# Altium schematic symbol library LimeMicroAltiumLib.SchLib: 659 symbols (part 7 of 22)
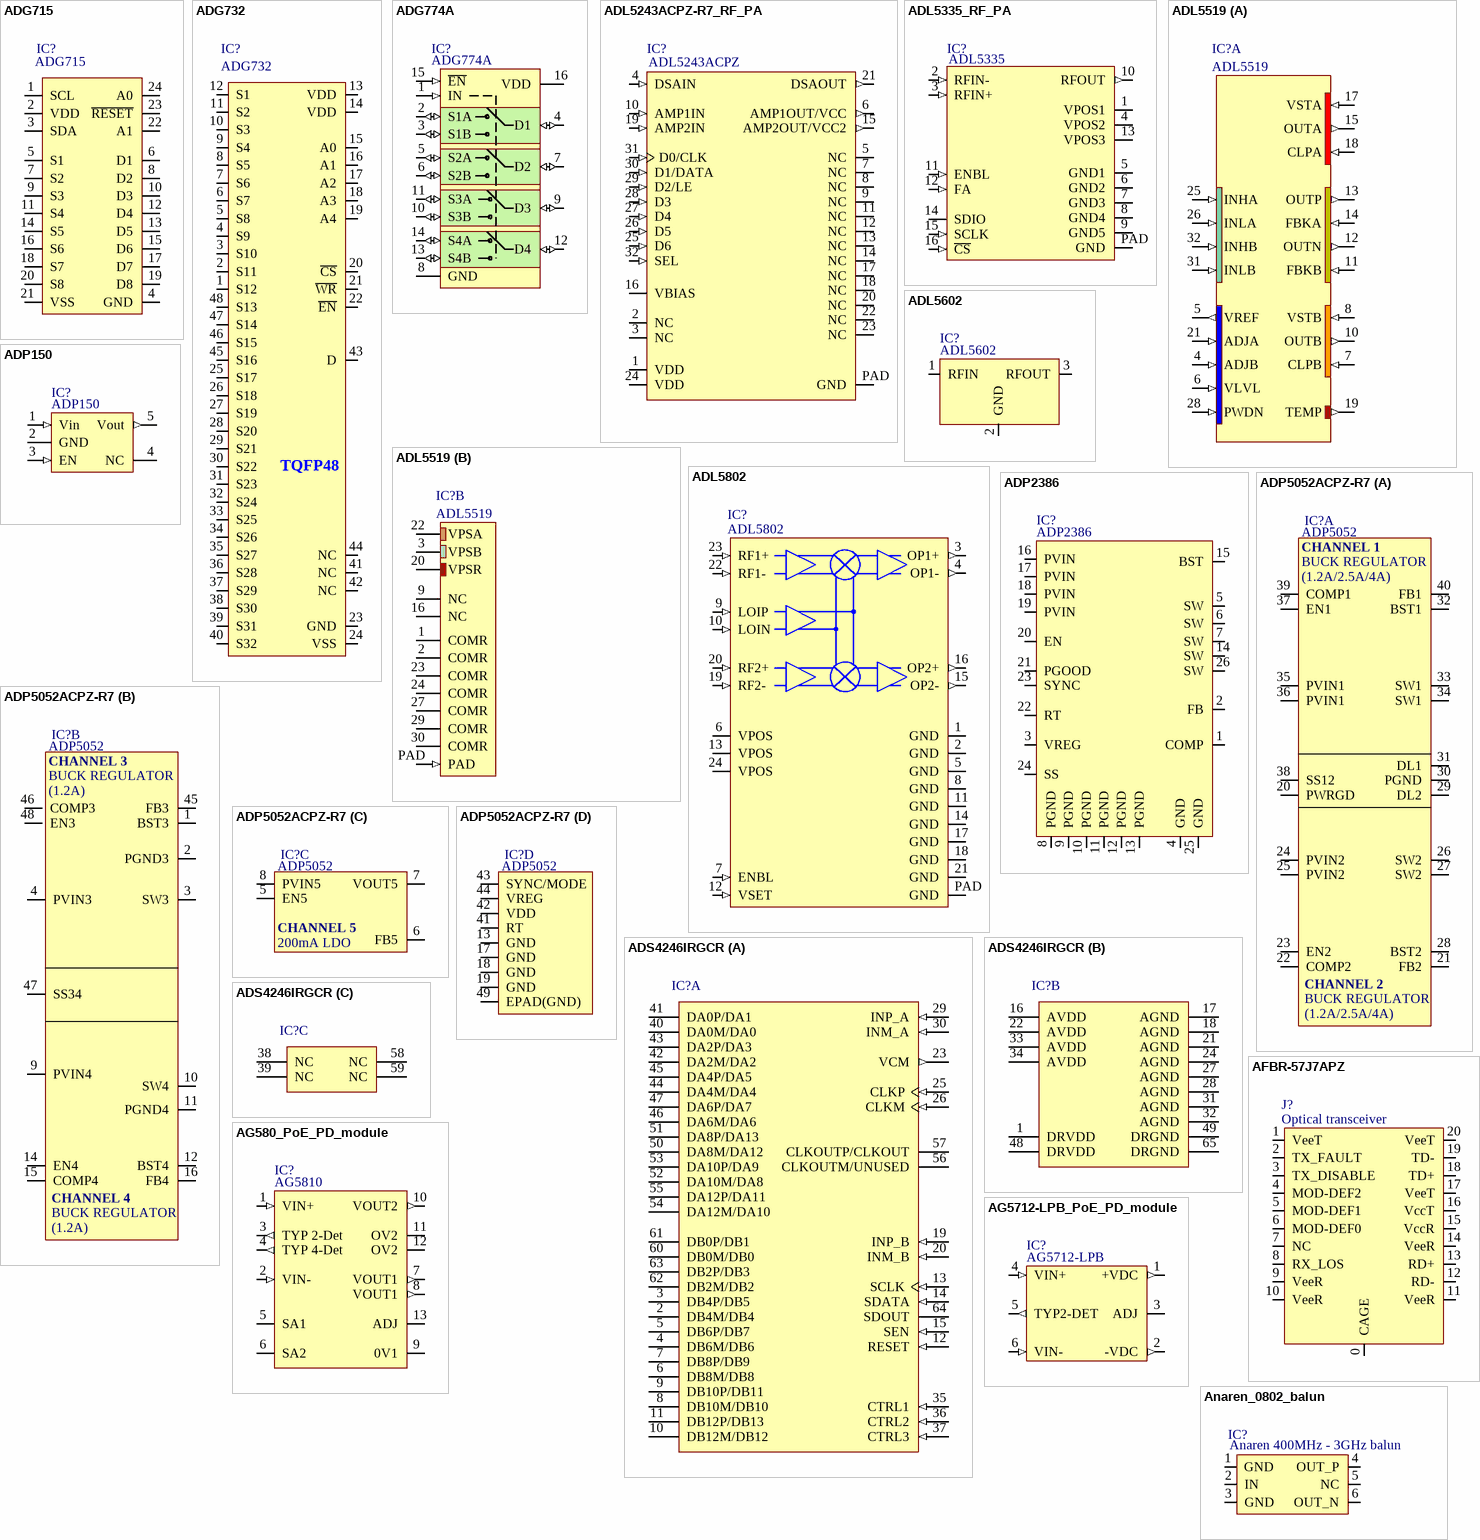
[diagram p84: symbols ADG715 to Anaren_0802_balun]

## ADS4246IRGCR
designator IC?
14-Bit 160 MSPS Dual Low Power ADC, -40 to 85 degC, 64-pin QFN (RGC64), Green (RoHS & no Sb/Br); Manufacturer: Texas Instruments; PartNumber: ADS4246IRGCR; # Input Channels: 2; Analog Voltage AV/DD(Max)(V): 1.9; Analog Voltage AV/DD(Min)(V): 1.7; Architecture: Pipeline; ENOB(Bits): 11.5; INL(Max)(+/-LSB): 5; Interface: Parallel CMOS, Parallel LVDS; Resolution(Bits): 14; Sample Rate (max)(SPS): 160M; SFDR(dB): 86; SINAD(dB): 72.6; SNR(dB): 72.8; SubFamily: High Speed ADC (>10MSPS); DatasheetVersion: SBAS533C; PackageVersion: 4204106/F, 11/2011; PackageReference: RGC64-7400X7400TP; PackageDescription: 64-Pin Plastic Quad Flatpack No-Lead, Body 9 x 9 mm, Pitch 0.5 mm; Supplier 1: Digi-Key; Supplier Part Number 1: ADS8372IBRHPTG4-ND; Supplier 2: Mouser; Supplier Part Number 2: 595-ADS8372IBRHPTG4; Digital Supply(Max)(V): 1.9; Digital Supply(Min)(V): 1.7; Eco-Plan: Green (RoHS & no Sb/Br); Mounting Technology: Surface Mount; ComponentLink1Description: Manufacturer URL; ComponentLink1URL: http://www.ti.com/; ComponentLink2Description: Datasheet; ComponentLink2URL: http://www.ti.com/general/docs/lit/getliterature.tsp?genericPartNumber=ADS4246&fileType=pdf; ComponentLink3Description: Package Specification; ComponentLink3URL: http://www.ti.com/litv/pdf/mpqf125e
footprint TI-RGC64-7400X7400TP_V (QFN, 64-Leads, Body 9x9mm, Pitch 0.5mm, Thermal Pad 7.4x7.4mm, TI Recommended)
part A pins: 2 DB4M/DB4 (hiz), 3 DB4P/DB5 (hiz), 4 DB6M/DB6 (hiz), 5 DB6P/DB7 (hiz), 6 DB8M/DB8 (hiz), 7 DB8P/DB9 (hiz), 8 DB10M/DB10 (hiz), 9 DB10P/DB11 (hiz), 10 DB12M/DB12 (hiz), 11 DB12P/DB13 (hiz), 12 RESET (in) "Serial interface RESET input. When using the serial interface mode, the internal registers must be initialized through a hardware RESET by applying a high pulse on this pin or by using the software reset option; refer to the (See Datasheet)", 13 SCLK (in) "This pin functions as a serial interface clock input when RESET is low. It controls the low-speed mode selection when RESET is tied high; see Table 5 for detailed information. This pin has an internal 150kohm pull-down (See Datasheet)", 14 SDATA (in) "Serial interface data input; this pin has an internal 150kohm pull-down resistor.", 15 SEN (in) "This pin functions as a serial interface enable input when RESET is low. It controls the output interface and data format selection when RESET is tied high; see Table 6 for detailed information. This pin has an internal (See Datasheet)", 19 INP_B (in) "Differential analog positive input, channel B", 20 INM_B (in) "Differential analog negative input, channel B", 23 VCM (out) "This pin outputs the common-mode voltage (0.95V) that can be used externally to bias the analog input pins", 25 CLKP (in) "Differential clock positive input", 26 CLKM (in) "Differential clock negative input", 29 INP_A (in) "Differential analog positive input, channel A", 30 INM_A (in) "Differential analog negative input, channel A", 35 CTRL1 (in) "Digital control input pins. Together, they control the various power-down modes.", 36 CTRL2 (in) "Digital control input pins. Together, they control the various power-down modes.", 37 CTRL3 (in) "Digital control input pins. Together, they control the various power-down modes.", 40 DA0M/DA0 (hiz), 41 DA0P/DA1 (hiz), 42 DA2M/DA2 (hiz), 43 DA2P/DA3 (hiz), 44 DA4M/DA4 (hiz), 45 DA4P/DA5 (hiz), 46 DA6M/DA6 (hiz), 47 DA6P/DA7 (hiz), 50 DA8M/DA12 (hiz), 51 DA8P/DA13 (hiz), 52 DA10M/DA8 (hiz), 53 DA10P/DA9 (hiz), 54 DA12M/DA10 (hiz), 55 DA12P/DA11 (hiz), 56 CLKOUTM/UNUSED (hiz), 57 CLKOUTP/CLKOUT (hiz), 60 DB0M/DB0 (hiz), 61 DB0P/DB1 (hiz), 62 DB2M/DB2 (hiz), 63 DB2P/DB3 (hiz), 64 SDOUT (hiz) "This pin functions as a serial interface register readout when the READOUT bit is enabled. When READOUT = 0, this pin is in high-impedance state."
part B pins: 1 DRVDD (power) "Output buffer supply", 16 AVDD (power) "Analog power supply", 17 AGND (power) "Analog ground", 18 AGND (power) "Analog ground", 21 AGND (power) "Analog ground", 22 AVDD (power) "Analog power supply", 24 AGND (power) "Analog ground", 27 AGND (power) "Analog ground", 28 AGND (power) "Analog ground", 31 AGND (power) "Analog ground", 32 AGND (power) "Analog ground", 33 AVDD (power) "Analog power supply", 34 AVDD (power) "Analog power supply", 48 DRVDD (power) "Output buffer supply", 49 DRGND (power) "Output buffer ground", 65 DRGND (power) "Output buffer ground"
part C pins: 38 NC "Do not connect, must be floated", 39 NC "Do not connect, must be floated", 58 NC "Do not connect, must be floated", 59 NC "Do not connect, must be floated"

## AFBR-57J7APZ
designator J?, comment Optical transceiver
AFBR-57J7APZ optical transceiver; Manufacturer: Avago Technologies US Inc.; Data Rate: 1.288 ~ 7.3728 Gb/s; Wavelength: 850nm; Connector Type: LC Duplex; Voltage - Supply: 3.3V; Supplier 1: Digi-Key; Category: Optoelectronics; Mounting Type: *; Manufacturer Part Number: AFBR-57J7APZ; RoHS: RoHS Compliant; Applications: Wireless Base Station Receiver; Supplier Part Number 1: 516-2930-ND
footprint AFBR-57J7APZ (Avago Optical Transceiver)
pins: 0 CAGE, 1 VeeT, 2 TX_FAULT, 3 TX_DISABLE, 4 MOD-DEF2, 5 MOD-DEF1, 6 MOD-DEF0, 7 NC, 8 RX_LOS, 9 VeeR, 10 VeeR, 11 VeeR, 12 RD-, 13 RD+, 14 VeeR, 15 VccR, 16 VccT, 17 VeeT, 18 TD+, 19 TD-, 20 VeeT

## AG580_PoE_PD_module
designator IC?, comment AG5810
Manufacturer: Silvertel; Part Description: Power Over Ethernet Module, 12/24V, 60W Rohs Compliant: Yes; Supplier 1: Digikey; Manufacturer Part Number 1: AG5810; Stock 1: 204; Pricing 1: 1=22, 10=21,75, 28=21,44, 56=20,8, 112=19,82009, 252=19,40004, 504=18,96012, 1008=17,49007 (USD); RoHS: No; Supplier Part Number 1: 5061-AG5810-ND; Value: AG5810
footprint Ag5810 (Connector; Header; 6 Position)
pins: 1 VIN+ (in), 2 VIN- (in), 3 TYP 2-Det (out), 4 TYP 4-Det (out), 5 SA1, 6 SA2, 7 VOUT1 (out), 8 VOUT1 (out), 9 0V1, 10 VOUT2 (out), 11 OV2, 12 OV2, 13 ADJ

## AG5712-LPB_PoE_PD_module
designator IC?, comment AG5712-LPB
Part Description: Isolated PoE Module DC DC Converter 1 Output 12V 2.5A 40V - 57V Input; Manufacturer: Silvertel; Supplier 1: Digikey; Supplier Part Number 1: 5061-AG5712-LPB-ND; Manufacturer Part Number 1: AG5712-LPB; Stock 1: 284; Pricing 1: 1=16,85, 10=16,34, 25=16,1, 50=15,5, 72=14,91, 144=14,81007, 288=14,44, 504=13,94004, 1008=12,30009 (USD); RoHS: No
footprint AG5712-LPB_PoE_PD_module
pins: 1 +VDC (out), 2 -VDC (out), 3 ADJ, 4 VIN+ (in), 5 TYP2-DET (out), 6 VIN- (in)

## Anaren_0802_balun
designator IC?, comment Anaren 400MHz - 3GHz balun
B0430J50100AHF; Frequency Range: 400 MHz to 3000 MHz; Impedance: 100 Ohms; Insertion Loss: 3.4 dB; Supplier 1: Mouser; Mounting: SMD/SMT; Packaging: Reel; Product: Baluns; Category: Signal Conditioning; RoHS: RoHS Compliant; Manufacturer Part Number 1: B0430J50100AHF; Package / Case: 0805 (2012 metric); Manufacturer: Anaren; Operating Temperature Range: - 55 C to + 85 C; Termination Style: SMD/SMT; Brand: Anaren; Type: Ultral Low Profile Balun; Standard Pack Qty: 4000; Tradename: Xinger; RoHS - Mouser: Y; Minimum Order Quantity: 1; Reeling: True; Supplier Part Number 1: 620-B0430J50100AHF
footprint Anaren_0805_balun (B0430J50100AHF anaren smd 0.4 GHz - 3 GHz balun)
pins: 1 GND, 2 IN, 3 GND, 4 OUT_P, 5 NC, 6 OUT_N

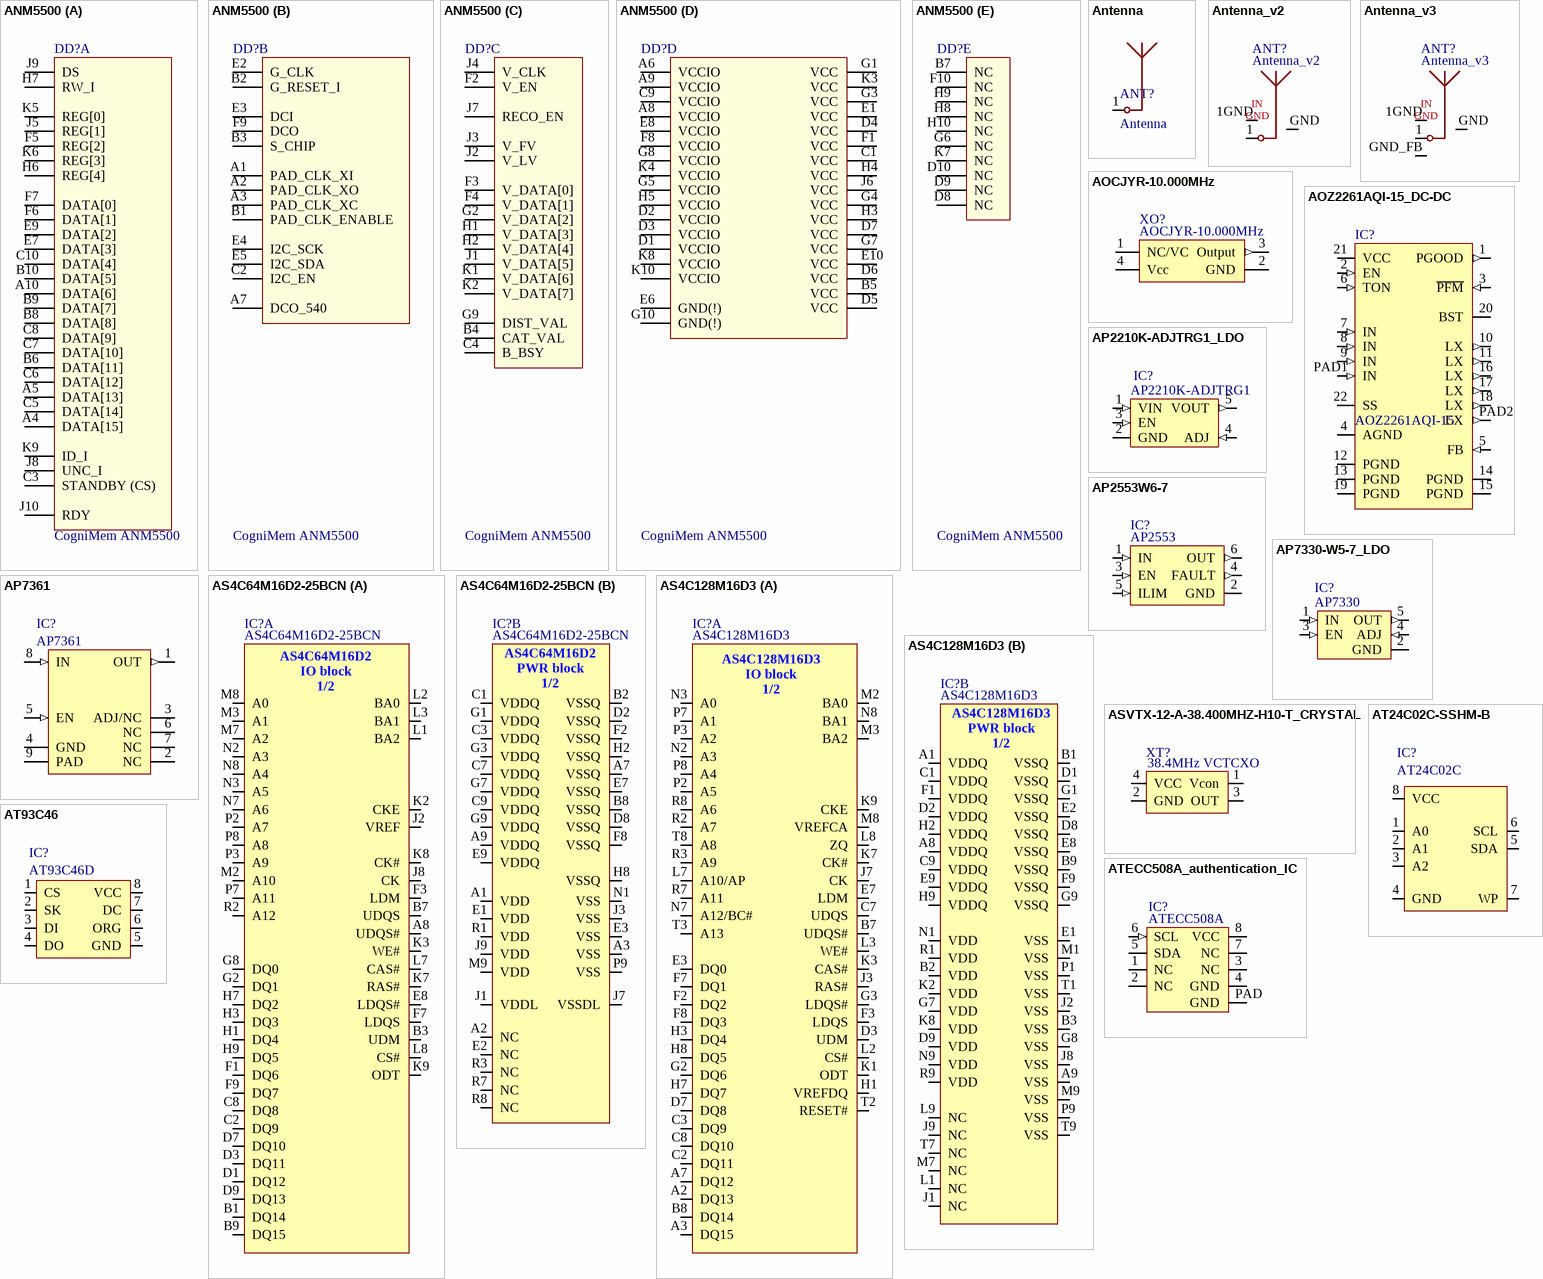
[diagram p23: symbols ANM5500 to ATECC508A_authentication_IC]

## ANM5500
designator DD?, comment CogniMem ANM5500
Pattern Recognition IC Co-Processing 100-BGA (14x14); MANUFACTURER: Cognimem; DIGI-KEY PART NUMBER: 110-0002-ND; CASE: 100-BGA
footprint ANM5500
part A pins: A4 DATA[15], A5 DATA[13], A10 DATA[6], B6 DATA[11], B8 DATA[8], B9 DATA[7], B10 DATA[5], C3 STANDBY (CS), C5 DATA[14], C6 DATA[12], C7 DATA[10], C8 DATA[9], C10 DATA[4], E7 DATA[3], E9 DATA[2], F5 REG[2], F6 DATA[1], F7 DATA[0], H6 REG[4], H7 RW_I, J5 REG[1], J8 UNC_I, J9 DS, J10 RDY, K5 REG[0], K6 REG[3], K9 ID_I
part B pins: A1 PAD_CLK_XI, A2 PAD_CLK_XO, A3 PAD_CLK_XC, A7 DCO_540, B1 PAD_CLK_ENABLE, B2 G_RESET_I, B3 S_CHIP, C2 I2C_EN, E2 G_CLK, E3 DCI, E4 I2C_SCK, E5 I2C_SDA, F9 DCO
part C pins: B4 CAT_VAL, C4 B_BSY, F2 V_EN, F3 V_DATA[0], F4 V_DATA[1], G2 V_DATA[2], G9 DIST_VAL, H1 V_DATA[3], H2 V_DATA[4], J1 V_DATA[5], J2 V_LV, J3 V_FV, J4 V_CLK, J7 RECO_EN, K1 V_DATA[6], K2 V_DATA[7]
part D pins: A6 VCCIO, A8 VCCIO, A9 VCCIO, B5 VCC, C1 VCC, C9 VCCIO, D1 VCCIO, D2 VCCIO, D3 VCCIO, D4 VCC, D5 VCC, D6 VCC, D7 VCC, E1 VCC, E6 GND(!), E8 VCCIO, E10 VCC, F1 VCC, F8 VCCIO, G1 VCC, G3 VCC, G4 VCC, G5 VCCIO, G7 VCC, G8 VCCIO, G10 GND(!), H3 VCC, H4 VCC, H5 VCCIO, J6 VCC, K3 VCC, K4 VCCIO, K8 VCCIO, K10 VCCIO
part E pins: B7 NC, D8 NC, D9 NC, D10 NC, F10 NC, G6 NC, H8 NC, H9 NC, H10 NC, K7 NC

## Antenna
designator ANT?
pins: 1

## Antenna_v2
designator ANT?
Manufacturer Part Number 1: *; Supplier Part Number 1: *; Supplier 1: *
pins: 1, 1GND 1, GND
text: IN GND

## Antenna_v3
designator ANT?
Manufacturer Part Number 1: *; Supplier Part Number 1: *; Supplier 1: *
pins: 1, 1GND 1, GND, GND_FB FB
text: IN GND

## AOCJYR-10.000MHz
designator XO?
Manufacturer: ABRACON; Manufacturer Part Number 1: AOCJYR-10.000MHZ-M5625LF; Part Description: AOCJYR-10.000MHZ-M5625LF - OCXO, 10 MHz, 25 ppb, LVCMOS, SMD, 9.7mm x 7.5mm, 3.3 V, AOCJYR Series; Frequency Nom: 10; Frequency Stability + / -: 25; Oscillator Output Compatibility: LVCMOS; Oscillator Case: SMD, 9.7mm x 7.5; Supply Voltage Nom: 3.3; Product Range: AOCJYR Series; Supplier 1: Newark; RoHS: YES; Stock 1: 65; Pricing 1: 1=38.51, 10=36.23, 50=35.72, 100=34.2, 250=31.16 (USD); ComponentLink1URL: http://www.farnell.com/datasheets/1883658.pdf; ComponentLink1Description: http://www.farnell.com/datasheets/1883658.pdf; Supplier Part Number 1: 40Y2089
footprint AOCJYR-10.000MHz
pins: 1 NC/VC, 2 GND, 3 Output (out), 4 Vcc (power)

## AOZ2261AQI-15_DC-DC
designator IC?, comment AOZ2261AQI-15
Manufacturer: Alpha & Omega Semiconductor; Part Description: 4V DC DC Voltage Regulator 1 Outputs 1MHz Tape & Reel (TR) 8A 22-PowerTFQFN; Max Supply Voltage: 24V; Min Supply Voltage: 4V; Frequency: 1MHz; Value: AOZ2261AQI-15; Supplier 1: Digikey; Manufacturer Part Number 1: AOZ2261AQI-15; Stock 1: 37036; Pricing 1: 1=1,91, 10=1,185, 25=0,9956, 100=0,7816, 250=0,6764, 500=0,6117, 1000=0,55748 (USD); RoHS: Yes; Supplier Part Number 1: 785-1930-1-ND
footprint AOZ2261AQI-15
pins: 1 PGOOD (out), 2 EN (in), 3 ~{PFM} (in), 4 AGND, 5 FB (in), 6 TON (in), 7 IN (in), 8 IN (in), 9 IN (in), 10 LX (out), 11 LX (out), 12 PGND, 13 PGND, 14 PGND, 15 PGND, 16 LX (out), 17 LX (out), 18 LX (out), 19 PGND, 20 BST, 21 VCC, 22 SS, PAD1 IN (in), PAD2 LX (out)

## AP2210K-ADJTRG1_LDO
designator IC?, comment AP2210K-ADJTRG1
Part Description: LDO Voltage Regulators 300mA CMOS LDO 2.5V to 13.2V; Manufacturer: Diodes Inc.; Accuracy: 1%; Dropout Voltage: 250mV; Max Input Voltage: 13.2V; Max Junction Temperature (Tj): 125°C; Max Output Current: 300mA; Min Input Voltage: 2.5V; Number of Channels: 1; Output Type: Adjustable; Output Voltage: 1.25V; Polarity: Positive; Quiescent Current: 150µA; Supplier 1: Mouser; Supplier Part Number 1: 621-AP2210K-ADJTRG1; Manufacturer Part Number 1: AP2210K-ADJTRG1; Stock 1: 23529; Pricing 1: 1=0,29, 10=0,203, 50=0,18, 100=0,155, 1000=0,122, 10000=0,121 (USD); RoHS: Compliant; Case/Package: SOT-23-5; China RoHS: Compliant; Export Control Classification Number (ECCN) Code: EAR99; Height: 1.4mm; Height - Seated (Max): 1.45mm; Harmonized Tariff Schedule (HTS) Code: 8542.39.00.60; Introduction Date: 2012-01-04; Lead Free: Lead Free; Length: 2.96mm; Lifecycle Status: Production; Max Operating Temperature: 85°C; Max Supply Voltage: 13.2V; Min Operating Temperature: -40°C; Min Supply Voltage: 2.5V; Mount: Surface Mount; Number of Circuits: 1; Number of Outputs: 1; Number of Pins: 5; Number of Regulators: 1; Number of Terminals: 5; Output Current: 300mA; REACH SVHC: Yes; Schedule B: 8542390000, 8542390000|8542390000|8542390000|8542390000|8542390000; Terminal Pitch: 950µm; Width: 1.6mm; ComponentLink1URL: https://datasheet.octopart.com:443/AP2210K-ADJTRG1-Diodes-Inc.-datasheet-155344810.pdf?src-supplier=IHS; ComponentLink1Description: https://datasheet.octopart.com:443/AP2210K-ADJTRG1-Diodes-Inc.-datasheet-155344810.pdf?src-supplier=IHS; ComponentLink2URL: https://datasheet.octopart.com:443/AP2210K-ADJTRG1-Diodes-Inc.-datasheet-31679378.pdf?src-supplier=IHS; ComponentLink2Description: https://datasheet.octopart.com:443/AP2210K-ADJTRG1-Diodes-Inc.-datasheet-31679378.pdf?src-supplier=IHS; ComponentLink3URL: https://datasheet.octopart.com:443/AP2210K-ADJTRG1-Diodes-Inc.-datasheet-81383207.pdf?src-supplier=SHENGYU+ELECTRONICS; ComponentLink3Description: https://datasheet.octopart.com:443/AP2210K-ADJTRG1-Diodes-Inc.-datasheet-81383207.pdf?src-supplier=SHENGYU+ELECTRONICS; ComponentLink4URL: https://sigma.octopart.com:443/138895853/technical_drawing/Diodes-Inc.-AP2210K-ADJTRG1.pdf?src-supplier=Upverter; ComponentLink4Description: https://sigma.octopart.com:443/138895853/technical_drawing/Diodes-Inc.-AP2210K-ADJTRG1.pdf?src-supplier=Upverter
footprint AP2210K-ADJTRG1_LDO_SOT23-5
pins: 1 VIN (in), 2 GND, 3 EN (in), 4 ADJ (in), 5 VOUT (out)

## AP2553W6-7
designator IC?, comment AP2553
Manufacturer: Diodes; Manufacturer Part Number 1: AP2553W6-7; Part Description: IC PD SW CURR LIMIT SOT26; Number of Outputs: 1; Min Supply Voltage: 2.7V; Max Supply Voltage: 5.5V; Interface: On/Off; Max Output Current: 2.1A; Turn-Off Delay Time: 500us; On-State Resistance: 70mR; Turn-On Delay Time: 1.5ms; Power Rating: 340mW; Fault Protection: Over Temperature,Reverse Current; Output Configuration: High Side; Supplier 1: Digi-Key; Stock 1: 53805; Pricing 1: 1=0.5, 10=0.425, 100=0.3172, 500=0.24926, 1000=0.19261 (USD); Mount: Surface Mount; Case/Package: SOT-26; Number of Pins: 6; Min Operating Temperature: -40°C; Max Operating Temperature: 85°C; Package Quantity: 3000; Packaging: Tape and Reel; Voltage: 5.5V; Current: 2.1A; Length: 3.1mm; Height: 1.3mm; Width: 1.7mm; Radiation Hardening: No; Lead Free: Lead Free; REACH SVHC: No SVHC; Supplier Part Number 1: AP2553W6-7DIDKR-ND
footprint SOT23-6
pins: 1 IN (in), 2 GND, 3 EN (in), 4 FAULT (out), 5 ILIM (in), 6 OUT (out)

## AP7330-W5-7_LDO
designator IC?, comment AP7330
Manufacturer: Diodes; Manufacturer Part Number 1: AP7330-W5-7; Pert Description: Linear Voltage Regulator IC Positive Adjustable 1 Output 300mA SOT-25; Supplier 1: Digi-Key; Supplier Part Number 1: AP7330-W5-7DICT-ND; Stock 1: 50531; Pricing 1: 1=0,35, 10=0,286, 25=0,2616, 100=0,1946, 250=0,17632, 500=0,14592, 1000=0,10944 (USD); RoHS: Yes; ComponentLink1URL: https://datasheet.octopart.com/AP7330-W5-7-Diodes-Inc.-datasheet-149521347.pdf?src-supplier=Farnell; ComponentLink1Description: https://datasheet.octopart.com/AP7330-W5-7-Diodes-Inc.-datasheet-149521347.pdf?src-supplier=Farnell; ComponentLink2URL: https://www.diodes.com/assets/Datasheets/AP7330.pdf?src-supplier=Digi-Key; ComponentLink2Description: https://www.diodes.com/assets/Datasheets/AP7330.pdf?src-supplier=Digi-Key
footprint AP7330-W5-7_SOT25
pins: 1 IN (in), 2 GND, 3 EN (in), 4 ADJ (in), 5 OUT (out)

## AP7361
designator IC?
Manufacturer Part Number 1: AP7361-33FGE-7; Manufacturer: Diodes Incorporated; Voltage - Output: 3.3V; Regulator Topology: Positive Fixed; Current - Output: 1A; Voltage - Input: Up to 6V; Current - Limit (Min): 1.1A; Voltage - Dropout (Typical): 0.5V @ 1A; Number of Regulators: 1; Supplier 1: Digi-Key; RoHS: RoHS Compliant; Packaging: Cut Tape (CT); Category: Integrated Circuits (ICs); Operating Temperature: -40°C ~ 85°C; Package / Case: 8-UDFN Exposed Pad; Mounting Type: Surface Mount; Supplier Device Package: U-DFN3030-8; Supplier Part Number 1: AP7361-33FGE-7DICT-ND
footprint AP7361 (Low noise LDO)
pins: 1 OUT (out), 2 NC, 3 ADJ/NC, 4 GND, 5 EN (in), 6 NC, 7 NC, 8 IN (in), 9 PAD

## AS4C64M16D2-25BCN
designator IC?
Manufacturer: Alliance Memory, Inc.; Speed: 400MHz; Interface: Parallel; Memory Type: DDR2 SDRAM; Memory Size: 1G (64M x 16); Voltage - Supply: 1.7 V ~ 1.9 V; Format - Memory: RAM; Supplier 1: Digi-Key; Package / Case: 84-TFBGA; Supplier Device Package: 84-FBGA (8x12.5); Manufacturer Part Number 1: AS4C64M16D2-25BCN; RoHS: RoHS Compliant; Operating Temperature: 0°C ~ 70°C; Category: Integrated Circuits (ICs); Packaging: Tray; Supplier Part Number 1: 1450-1158-ND
footprint AS4C64M16D2
part A pins: A8 UDQS#, B1 DQ14, B3 UDM, B7 UDQS, B9 DQ15, C2 DQ9, C8 DQ8, D1 DQ12, D3 DQ11, D7 DQ10, D9 DQ13, E8 LDQS#, F1 DQ6, F3 LDM, F7 LDQS, F9 DQ7, G2 DQ1, G8 DQ0, H1 DQ4, H3 DQ3, H7 DQ2, H9 DQ5, J2 VREF, J8 CK, K2 CKE, K3 WE#, K7 RAS#, K8 CK#, K9 ODT, L1 BA2, L2 BA0, L3 BA1, L7 CAS#, L8 CS#, M2 A10, M3 A1, M7 A2, M8 A0, N2 A3, N3 A5, N7 A6, N8 A4, P2 A7, P3 A9, P7 A11, P8 A8, R2 A12
part B pins: A1 VDD (power), A2 NC, A3 VSS (power), A7 VSSQ (power), A9 VDDQ (power), B2 VSSQ (power), B8 VSSQ (power), C1 VDDQ (power), C3 VDDQ (power), C7 VDDQ (power), C9 VDDQ (power), D2 VSSQ (power), D8 VSSQ (power), E1 VDD (power), E2 NC, E3 VSS (power), E7 VSSQ (power), E9 VDDQ (power), F2 VSSQ (power), F8 VSSQ (power), G1 VDDQ (power), G3 VDDQ (power), G7 VDDQ (power), G9 VDDQ (power), H2 VSSQ (power), H8 VSSQ (power), J1 VDDL (power), J3 VSS (power), J7 VSSDL (power), J9 VDD (power), M9 VDD (power), N1 VSS (power), P9 VSS (power), R1 VDD (power), R3 NC, R7 NC, R8 NC
part A text: AS4C64M16D2 / IO block / 1/2
part B text: AS4C64M16D2 / PWR block / 1/2

## AS4C128M16D3
designator IC?
Manufacturer: Alliance Memory, Inc.; Memory Size: 2G (128M x 16); Interface: Parallel; Voltage - Supply: 1.425 V ~ 1.575 V; Format - Memory: RAM; Supplier 1: Digi-Key; Supplier Part Number 1: 1450-1083-ND; Supplier Device Package: 96-FBGA (13x9); Package / Case: 96-TFBGA; Supplier: Digi-Key; Category: Integrated Circuits (ICs)
part A pins: A2 DQ13, A3 DQ15, A7 DQ12, B7 UDQS#, B8 DQ14, C2 DQ11, C3 DQ9, C7 UDQS, C8 DQ10, D3 UDM, D7 DQ8, E3 DQ0, E7 LDM, F2 DQ2, F3 LDQS, F7 DQ1, F8 DQ3, G2 DQ6, G3 LDQS#, H1 VREFDQ, H3 DQ4, H7 DQ7, H8 DQ5, J3 RAS#, J7 CK, K1 ODT, K3 CAS#, K7 CK#, K9 CKE, L2 CS#, L3 WE#, L7 A10/AP, L8 ZQ, M2 BA0, M3 BA2, M8 VREFCA, N2 A3, N3 A0, N7 A12/BC#, N8 BA1, P2 A5, P3 A2, P7 A1, P8 A4, R2 A7, R3 A9, R7 A11, R8 A6, T2 RESET#, T3 A13, T8 A8
part B pins: A1 VDDQ (power), A8 VDDQ (power), A9 VSS (power), B1 VSSQ (power), B2 VDD (power), B3 VSS (power), B9 VSSQ (power), C1 VDDQ (power), C9 VDDQ (power), D1 VSSQ (power), D2 VDDQ (power), D8 VSSQ (power), D9 VDD (power), E1 VSS (power), E2 VSSQ (power), E8 VSSQ (power), E9 VDDQ (power), F1 VDDQ (power), F9 VSSQ (power), G1 VSSQ (power), G7 VDD (power), G8 VSS (power), G9 VSSQ (power), H2 VDDQ (power), H9 VDDQ (power), J1 NC, J2 VSS (power), J8 VSS (power), J9 NC, K2 VDD (power), K8 VDD (power), L1 NC, L9 NC, M1 VSS (power), M7 NC, M9 VSS (power), N1 VDD (power), N9 VDD (power), P1 VSS (power), P9 VSS (power), R1 VDD (power), R9 VDD (power), T1 VSS (power), T7 NC, T9 VSS (power)
part A text: AS4C128M16D3 / IO block / 1/2
part B text: AS4C128M16D3 / PWR block / 1/2

## ASVTX-12-A-38.400MHZ-H10-T_CRYSTAL
designator XT?, comment 38.4MHz VCTCXO
Oscillator Crystal; Manufacturer: Abracon; Manufacturer Part Number 1: ASVTX-12-A-38.400MHZ-H10-T; Part Description: 38.4MHz VCTCXO Clipped Sine Wave Oscillator 3V  4-SMD, No Lead; Operating Supply Voltage: 3V; Frequency Stability: 1ppm; Max Supply Current: 2.5mA; Supplier 1: Digi-Key; Stock 1: 1680; Pricing 1: 1 = 3,58000, 10 = 3,41000, 50 = 3,23960, 100 = 2,89850, 500 = 2,72800 (USD); RoHS: Yes; Mount: Surface Mount; Case/Package: SMD/SMT; Min Operating Temperature: -30°C; Max Operating Temperature: 85°C; Frequency: 38.4MHz; Package Quantity: 1000; Packaging: Tape and Reel; Termination: SMD/SMT; Length: 0.098inch; Height: 0.035inch; Width: 0.079inch; ComponentLink1URL: https://datasheet.ciiva.com/5466/astx12-asvtx12-8609-5466673.pdf?src-supplier=Mouser; ComponentLink1Description: https://datasheet.ciiva.com/5466/astx12-asvtx12-8609-5466673.pdf?src-supplier=Mouser; ComponentLink2URL: https://datasheet.ciiva.com/867/astx12-asvtx12-867453.pdf?src-supplier=Digi-Key; ComponentLink2Description: https://datasheet.ciiva.com/867/astx12-asvtx12-867453.pdf?src-supplier=Digi-Key; ComponentLink3URL: https://datasheet.ciiva.com/867/astx12-asvtx12-867454.pdf?src-supplier=Digi-Key; ComponentLink3Description: https://datasheet.ciiva.com/867/astx12-asvtx12-867454.pdf?src-supplier=Digi-Key; ComponentLink4URL: https://datasheet.ciiva.com/867/astx12-asvtx12-867455.pdf?src-supplier=Digi-Key; ComponentLink4Description: https://datasheet.ciiva.com/867/astx12-asvtx12-867455.pdf?src-supplier=Digi-Key; Supplier Part Number 1: 535-11790-1-ND
footprint CRYSTAL_4-LCC_2P5x2P0 (SMD Crystal 4-lead leadless package 2.5x2.0 mm)
pins: 1 Vcon, 2 GND, 3 OUT, 4 VCC

## AT24C02C-SSHM-B
designator IC?, comment AT24C02C
Manufacturer: ATMEL; Manufacturer Part Number 1: AT24C02C-SSHM-T; Supplier 1: Farnell; Supplier Part Number 1: 2345577
footprint SOIC127P600-8DL_v2 (8-Pin Small Outline Integrated Circuit 1.27 mm Pitch)
pins: 1 A0, 2 A1, 3 A2, 4 GND, 5 SDA, 6 SCL, 7 WP, 8 VCC

## AT93C46
designator IC?, comment AT93C46D
Manufacturer: Atmel; Manufacturer Part Number: AT93C46DN-SH-T; Voltage - Supply: 1.8 V ~ 5.5 V; Format - Memory: EEPROMs - Serial; Memory Size: 1K (128 x 8 or 64 x 16); Speed: 250kHz, 1MHz, 2MHz; Supplier 1: Digi-Key; Category: Integrated Circuits (ICs); Supplier Device Package: 8-SOIC; Supplier Part Number: AT93C46DN-SH-TCT-ND
footprint MIC37122YM TR_SO8 (SOIC, 8-Leads, Body 4,90x3,90mm, Pitch 1,27mm, IPC Medium Density)
pins: 1 CS, 2 SK, 3 DI, 4 DO, 5 GND, 6 ORG, 7 DC, 8 VCC

## ATECC508A_authentication_IC
designator IC?, comment ATECC508A
Manufacturer: Microchip; Manufacturer Part Number 1: ATECC508A-MAHDA-S; Part Description: Authentication Chip IC Networking and Communications 8-UDFN (2x3); Supplier 1: Digi-Key; Stock 1: 27941; Pricing 1: 1=0.73, 25=0.7064 (USD); Supplier Part Number 1: ATECC508A-MAHDA-SDKR-ND
footprint ATECC508A_UDFN8
pins: 1 NC, 2 NC, 3 NC, 4 GND, 5 SDA (io), 6 SCL (in), 7 NC, 8 VCC (power), PAD GND

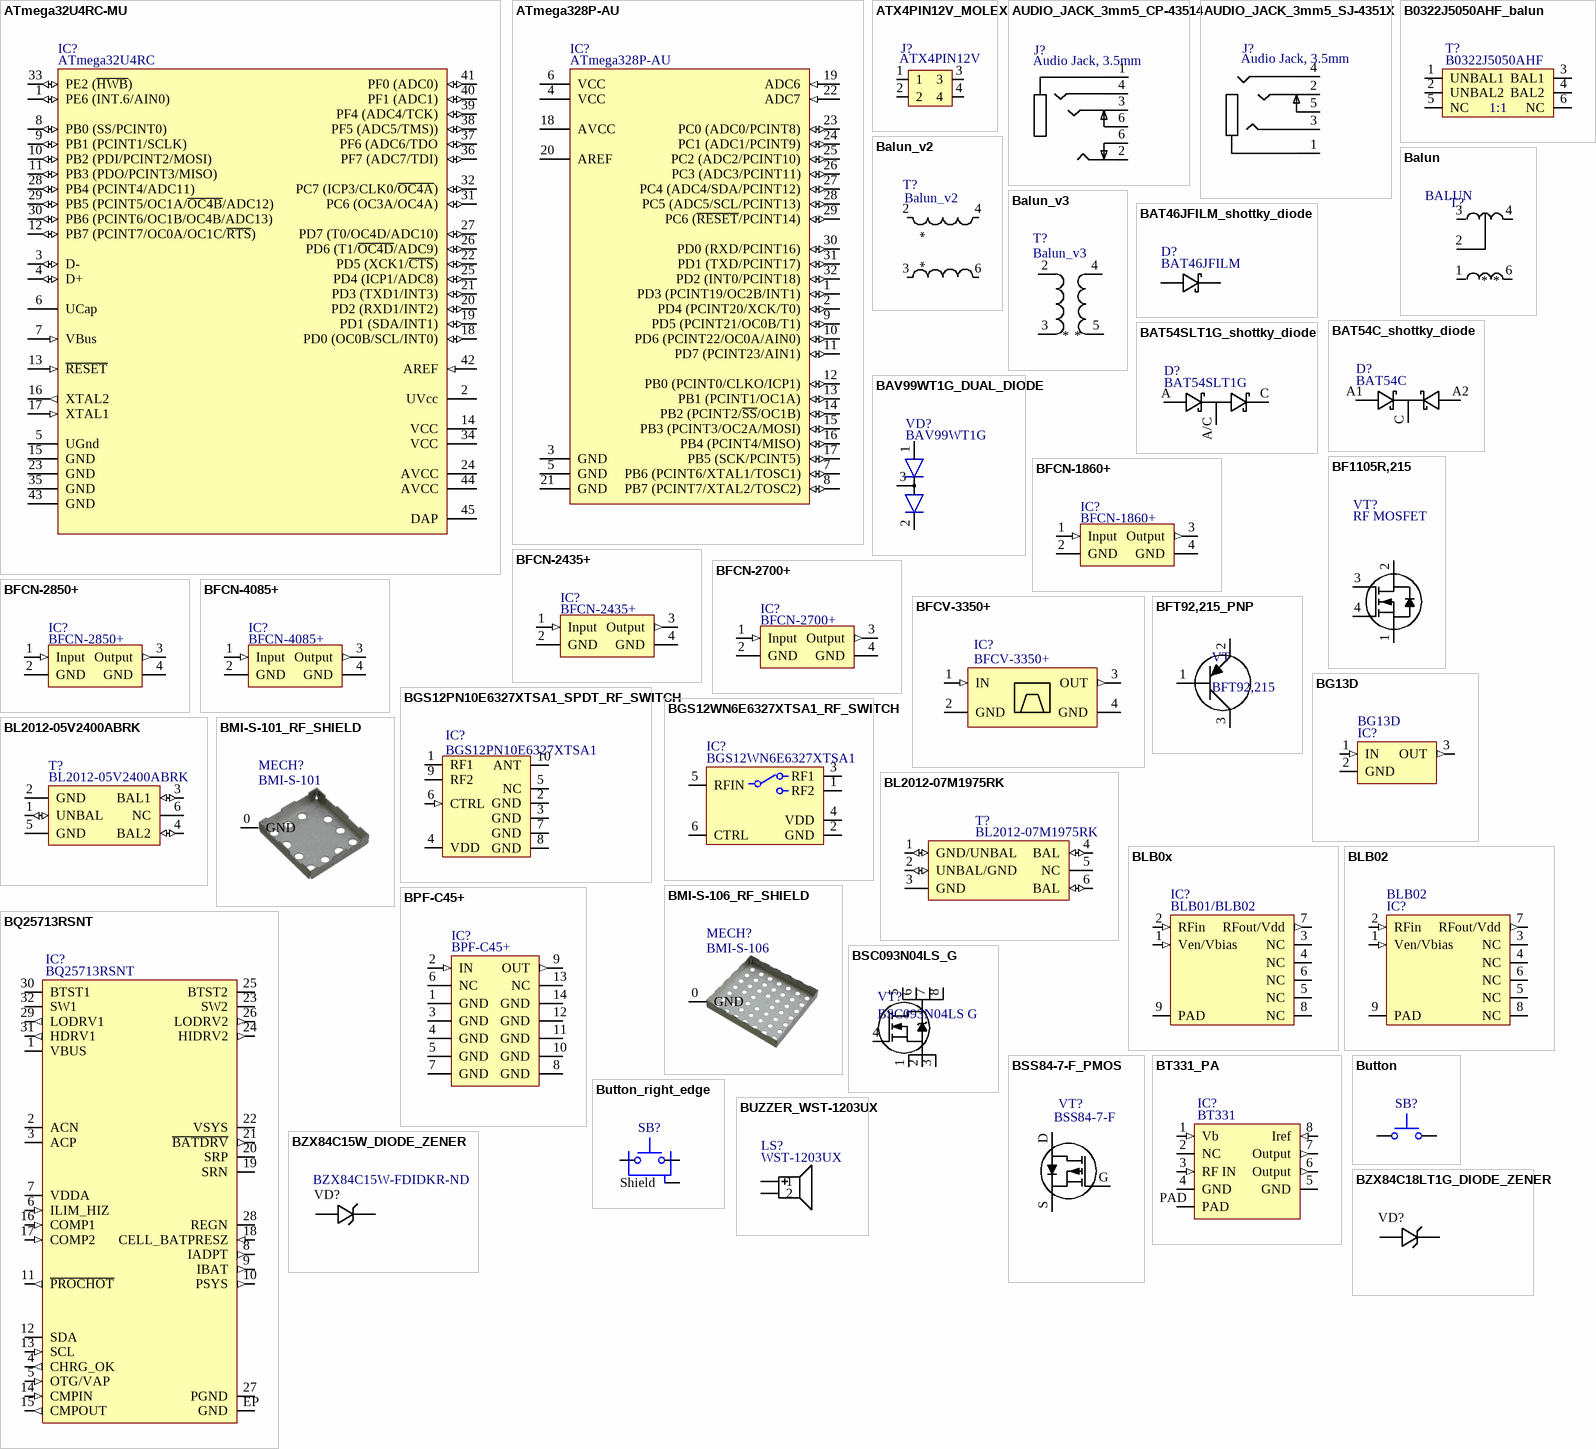
[diagram p24: symbols ATmega32U4RC-MU to BZX84C18LT1G_DIODE_ZENER]

## ATmega32U4RC-MU
designator IC?, comment ATmega32U4RC
8-bit AVR Microcontroller, 2.7-5.5V, 16MHz, 32KB Flash, 1KB EEPROM, 2.5KB SRAM, USB Controller, 44-pin QFN, Industrial Grade (-40°C to 85°C), Int RC; Part Description: AVR AVR® ATmega Microcontroller IC 8-Bit 16MHz 32KB (16K x 16) FLASH 44-QFN (7x7); Manufacturer: Microchip Technology; Manufacturer Part Number: ATMEGA32U4-MUR; Connectivity: I²C, SPI, UART/USART, USB; Peripherals: Brown-out Detect/Reset, POR, PWM, WDT; Program Memory Size: 32KB (16K x 16); EEPROM Size: 1K x 8; RAM Size: 2.5K x 8; Voltage - Supply (Vcc/Vdd): 2.7 V ~ 5.5 V; Data Converters: A/D 12x10b; Oscillator Type: Internal; Supplier 1: Digi-Key; RoHS: RoHS Compliant; Category: Integrated Circuits (ICs); Stock 1: 4167; Pricing 1: 1=4.21, 25=3.8624, 100=3.502 (USD); Packaging: Cut Tape (CT); Part Status: Active; Core Processor: AVR; Core Size: 8-Bit; Speed: 16MHz; Program Memory Type: FLASH; Operating Temperature: -40°C ~ 85°C (TA); Package / Case: 44-VFQFN Exposed Pad; Supplier Device Package: 44-QFN (7x7); Base Part Number: ATMEGA32; ComponentLink1URL: http://www.microchip.com/mymicrochip/filehandler.aspx?ddocname=en590739; ComponentLink1Description: http://www.microchip.com/mymicrochip/filehandler.aspx?ddocname=en590739; Supplier Part Number 1: ATMEGA32U4-MURCT-ND
footprint ATmega32U4RC-MU_QFN44 (QFN, 44-Leads, Body 7x7mm, Pitch 0.5mm, Thermal Pad 5.3x5.3mm, IPC Low Density)
pins: 1 PE6 (INT.6/AIN0) (io), 2 UVcc (power), 3 D- (io), 4 D+ (io), 5 UGnd (power), 6 UCap, 7 VBus (in), 8 PB0 (SS/PCINT0) (io), 9 PB1 (PCINT1/SCLK) (io), 10 PB2 (PDI/PCINT2/MOSI) (io), 11 PB3 (PDO/PCINT3/MISO) (io), 12 PB7 (PCINT7/OC0A/OC1C/~{RTS}) (io), 13 ~{RESET} (in), 14 VCC (power), 15 GND (power), 16 XTAL2 (out), 17 XTAL1 (in), 18 PD0 (OC0B/SCL/INT0) (io), 19 PD1 (SDA/INT1) (io), 20 PD2 (RXD1/INT2) (io), 21 PD3 (TXD1/INT3) (io), 22 PD5 (XCK1/~{CTS}) (io), 23 GND (power), 24 AVCC (power), 25 PD4 (ICP1/ADC8) (io), 26 PD6 (T1/~{OC4D}/ADC9) (io), 27 PD7 (T0/OC4D/ADC10) (io), 28 PB4 (PCINT4/ADC11) (io), 29 PB5 (PCINT5/OC1A/~{OC4B}/ADC12) (io), 30 PB6 (PCINT6/OC1B/OC4B/ADC13) (io), 31 PC6 (OC3A/OC4A) (io), 32 PC7 (ICP3/CLK0/~{OC4A}) (io), 33 PE2 (~{HWB}) (io), 34 VCC (power), 35 GND (power), 36 PF7 (ADC7/TDI) (io), 37 PF6 (ADC6/TDO (io), 38 PF5 (ADC5/TMS)) (io), 39 PF4 (ADC4/TCK) (io), 40 PF1 (ADC1) (io), 41 PF0 (ADC0) (io), 42 AREF (in), 43 GND (power), 44 AVCC (power), 45 DAP (power)

## ATmega328P-AU
designator IC?
8-bit AVR Microcontroller, 32KB Flash, 1KB EEPROM, 2KB SRAM, 32-pin TQFP, Industrial Grade (-40°C to 85°C); Manufacturer: Microchip Technology; Part Description: AVR AVR® ATmega Microcontroller IC 8-Bit 20MHz 32KB (16K x 16) FLASH 32-TQFP (7x7); Speed: 20MHz; Connectivity: I²C, SPI, UART/USART; Peripherals: Brown-out Detect/Reset, POR, PWM, WDT; Program Memory Size: 32KB (16K x 16); EEPROM Size: 1K x 8; RAM Size: 2K x 8; Voltage - Supply (Vcc/Vdd): 1.8 V ~ 5.5 V; Data Converters: A/D 8x10b; Oscillator Type: Internal; Supplier 1: Digi-Key; Manufacturer Part Number: ATMEGA328P-AU; RoHS: RoHS Compliant; Category: Integrated Circuits (ICs); Stock 1: 1378; Pricing 1: 1=2.13, 25=1.9504, 100=1.7702 (USD); Packaging: Tray; Part Status: Active; Core Processor: AVR; Core Size: 8-Bit; Program Memory Type: FLASH; Operating Temperature: -40°C ~ 85°C (TA); Package / Case: 32-TQFP; Supplier Device Package: 32-TQFP (7x7); Base Part Number: ATMEGA328; ComponentLink1URL: http://www.microchip.com/mymicrochip/filehandler.aspx?ddocname=en589968; ComponentLink1Description: http://www.microchip.com/mymicrochip/filehandler.aspx?ddocname=en589968; Supplier Part Number 1: ATMEGA328P-AU-ND
footprint ATmega328P-AU_TQFP_32 (Thin QFP, 32-Leads, Body 7x7mm, Pitch 0.8mm, IPC Low Density)
pins: 1 PD3 (PCINT19/OC2B/INT1) (io), 2 PD4 (PCINT20/XCK/T0) (io), 3 GND (power), 4 VCC (power), 5 GND (power), 6 VCC (power), 7 PB6 (PCINT6/XTAL1/TOSC1) (io), 8 PB7 (PCINT7/XTAL2/TOSC2) (io), 9 PD5 (PCINT21/OC0B/T1) (io), 10 PD6 (PCINT22/OC0A/AIN0) (io), 11 PD7 (PCINT23/AIN1) (io), 12 PB0 (PCINT0/CLKO/ICP1) (io), 13 PB1 (PCINT1/OC1A) (io), 14 PB2 (PCINT2/~{SS}/OC1B) (io), 15 PB3 (PCINT3/OC2A/MOSI) (io), 16 PB4 (PCINT4/MISO) (io), 17 PB5 (SCK/PCINT5) (io), 18 AVCC (power), 19 ADC6 (in), 20 AREF, 21 GND (power), 22 ADC7 (in), 23 PC0 (ADC0/PCINT8) (io), 24 PC1 (ADC1/PCINT9) (io), 25 PC2 (ADC2/PCINT10) (io), 26 PC3 (ADC3/PCINT11) (io), 27 PC4 (ADC4/SDA/PCINT12) (io), 28 PC5 (ADC5/SCL/PCINT13) (io), 29 PC6 (~{RESET}/PCINT14) (io), 30 PD0 (RXD/PCINT16) (io), 31 PD1 (TXD/PCINT17) (io), 32 PD2 (INT0/PCINT18) (io)

## ATX4PIN12V_MOLEX
designator J?, comment ATX4PIN12V
Manufacturer Part Number: 0039281043; Manufacturer: Molex Inc.; Number of Positions Loaded: All; Pitch: 0.165" (4.20mm); Connector Type: Header, Shrouded; Number of Positions: 4; Supplier 1: Digi-Key; RoHS: RoHS Compliant; Packaging: Bulk; Contact Type: Male Pin; Category: Connectors, Interconnects; Features: -; Number of Rows: 2; Row Spacing: 0.165" (4.20mm); Termination: Solder; Contact Finish Thickness: 35µin (0.90µm); Mounting Type: Through Hole; Fastening Type: Locking Ramp; Color: Natural; Contact Finish: Tin; Contact Mating Length: -; Supplier Part Number 1: WM3801-ND
footprint TV602-030.72M (TV602-030.72M Connor Winfield)
pins: 1, 2, 3, 4

## AUDIO_JACK_3mm5_CP-43514
designator J?, comment Audio Jack, 3.5mm
Part Description: 3.50mm (0.141", 1/8", Mini Plug) - Headphone Phone Jack Stereo (4 Conductor, TRRS) Connector Solder; Manufacturer: CUI; Manufacturer Part Number 1: SJ-43514-SMT-TR; Gender: Female; Shielding: Unshielded; Current Rating: 1A; Number of Positions: 1; Number of Conductors: 4; ComponentLink1URL: http://www.cui.com/product/resource/digikeypdf/sj-4351x.pdf; ComponentLink1Description: http://www.cui.com/product/resource/digikeypdf/sj-4351x.pdf; Supplier 1: Digi-Key; Stock 1: 48146; Pricing 1: 1=1.15, 10=1.01, 25=0.9504, 50=0.9108, 100=0.8712, 250=0.792, 500=0.7128 (USD); Mount: Surface Mount; Case/Package: SMD/SMT; Contact Plating: Silver; Colour: Black; Packaging: Tape and Reel; Termination: Solder; Connector Type: Jack; Number of Ports: 1; Orientation: Horizontal; Lead Free: Lead Free; ComponentLink2URL: http://www.cui.com/product/resource/sj-4351x-smt-series.pdf; ComponentLink2Description: http://www.cui.com/product/resource/sj-4351x-smt-series.pdf; ComponentLink3URL: https://www.cui.com/product/resource/digikeypdf/sj-4351x-smt_series.pdf; ComponentLink3Description: https://www.cui.com/product/resource/digikeypdf/sj-4351x-smt_series.pdf; Supplier Part Number 1: CP-43514SJDKR-ND
footprint Audio_jack_3.5mm_SMD
pins: 1, 2, 3, 4, 6, 6

## AUDIO_JACK_3mm5_SJ-4351X
designator J?, comment Audio Jack, 3.5mm
Manufacturer: CUI Inc.; Manufacturer Part Number: SJ-43515TS; Part Description: CONN JACK 4COND 3.5MM R/A; Connector Type: Phone Jack; Gender: Female; Signal Lines: Multiple; Industry Recognized Mating Diameter: 3.50mm (0.141", 1/8", Mini Plug) - Headphone; Actual Diameter: 0.142" (3.60mm); Number of Positions/Contacts: 4 Conductors, 5 Contacts; Internal Switch(s): Single Switch; Shielding: Unshielded; Voltage - Rated: 12VDC; Current Rating: 1A; Mating Length/Depth: 0.551" (14.00mm); Body Color: Black; Supplier 1: Digi-Key; RoHS: RoHS Compliant; Category: Connectors, Interconnects; Stock 1: 62424; Pricing 1: 1=1.04, 10=0.91, 25=0.8568, 50=0.8212, 100=0.7854, 250=0.714, 500=0.6426, 1000=0.5712, 2500=0.51765 (USD); Packaging: Bulk; Part Status: Active; Mounting Type: Through Hole, Right Angle; Termination: Solder; Features: -; Insulation Color: -; Contact Material - Plating: Gold; Body Material: -; Includes: -; Housing Material: Polyamide (PA66), Nylon 6/6; Contact Material: Brass, Copper Alloy, Phosphor Bronze; Cable Opening: -; Panel Hole Size: -; Thread Size: -; Operating Temperature: -20°C ~ 85°C; ComponentLink1URL: http://www.cui.com/product/resource/digikeypdf/sj-4351x.pdf; ComponentLink1Description: http://www.cui.com/product/resource/digikeypdf/sj-4351x.pdf; Supplier Part Number 1: CP-43515TS-ND
footprint Audio_jack_3.5mm
pins: 1, 2, 3, 4, 5

## B0322J5050AHF_balun
designator T?, comment B0322J5050AHF
Part Description: Signal Conditioning 300-2200MHz 50 Ohm IL=1.6dB; Manufacturer: Anaren; Impedance: 50R; Turns Ratio: 1:1; Insertion Loss: 1.6dB; Supplier 1: Mouser; Supplier Part Number 1: 620-B0322J5050AHF; Manufacturer Part Number 1: B0322J5050AHF; Stock 1: 19367; Pricing 1: 1=1,65000, 10=1,02000, 50=1,02000, 100=0,88300, 1000=0,56100, 10000=0,52800 (USD); RoHS: Yes; Mount: Surface Mount; Case/Package: 0805; Number of Pins: 6; Case Code (Metric): 2012; Case Code (Imperial): 0805; Min Operating Temperature: -55°C; Max Operating Temperature: 85°C; Package Quantity: 1; Packaging: Tape and Reel; Termination: SMD/SMT; Series: Xinger®; Length: 2.04mm; Depth: 1.29mm; RoHS Compliant: Yes; ComponentLink1URL: https://datasheet.ciiva.com/2788/b0322j5050ahf-datasheet-reva-2788996.pdf?src-supplier=Digi-Key; ComponentLink1Description: https://datasheet.ciiva.com/2788/b0322j5050ahf-datasheet-reva-2788996.pdf?src-supplier=Digi-Key; ComponentLink2URL: https://datasheet.ciiva.com/4548/b0322j5050ahf-datasheet-reva-18090-4548378.pdf?src-supplier=Mouser; ComponentLink2Description: https://datasheet.ciiva.com/4548/b0322j5050ahf-datasheet-reva-18090-4548378.pdf?src-supplier=Mouser; ComponentLink3URL: https://datasheet.ciiva.com/2788/b0322j5050ahf-2788997.pdf?src-supplier=Digi-Key; ComponentLink3Description: https://datasheet.ciiva.com/2788/b0322j5050ahf-2788997.pdf?src-supplier=Digi-Key; ComponentLink4URL: https://datasheet.ciiva.com/2788/b0322j5050ahf-2788998.pdf?src-supplier=Digi-Key; ComponentLink4Description: https://datasheet.ciiva.com/2788/b0322j5050ahf-2788998.pdf?src-supplier=Digi-Key; ComponentLink5URL: https://datasheet.ciiva.com/26819/getdatasheetpartid-573228-26819653.pdf?src-supplier=Verical; ComponentLink5Description: https://datasheet.ciiva.com/26819/getdatasheetpartid-573228-26819653.pdf?src-supplier=Verical
footprint Anaren_0805_balun_B0322J5050AHF (B0430J50100AHF anaren smd 0.4 GHz - 3 GHz balun)
pins: 1 UNBAL1, 2 UNBAL2, 3 BAL1, 4 BAL2, 5 NC, 6 NC

## Balun
designator T?, comment BALUN
pins: 1, 2, 3, 4, 6

## Balun_v2
designator T?
pins: 2, 3, 4, 6

## Balun_v3
designator T?
pins: 2, 3, 4, 5

## BAT46JFILM_shottky_diode
designator D?, comment BAT46JFILM
footprint BAT46JFILM_shottky_diode_SOD323 (SOD-323; 2 Leads; Body 1.8 x 1.35 mm, (LxW))
pins: A, C

## BAT54C_shottky_diode
designator D?, comment BAT54C
Part Description: Diode Array 1 Pair Common Cathode Schottky 30 V 200mA (DC) Surface Mount TO-236-3, SC-59, SOT-23-3; Manufacturer: Comchip; Manufacturer Part Number 1: BAT54C-G; Max Reverse Voltage (DC): 30V; Max Power Dissipation: 225mW; Average Rectified Current: 200mA; Recovery Time: 5ns; Element Configuration: Common Cathode; ComponentLink1URL: http://www.farnell.com/datasheets/1918741.pdf; ComponentLink1Description: http://www.farnell.com/datasheets/1918741.pdf; ComponentLink2URL: http://www.farnell.com/datasheets/2353871.pdf; ComponentLink2Description: http://www.farnell.com/datasheets/2353871.pdf; ComponentLink3URL: https://www.alliedelec.com/m/d/272158a697e3f24d20806a718aa29d59.pdf; ComponentLink3Description: https://www.alliedelec.com/m/d/272158a697e3f24d20806a718aa29d59.pdf; ComponentLink4URL: http://www.onsemi.com/pub/Collateral/BAT54SLT1-D.PDF; ComponentLink4Description: http://www.onsemi.com/pub/Collateral/BAT54SLT1-D.PDF; Supplier 1: Digi-Key; Supplier Part Number 1: 641-1320-1-ND; Stock 1: 764277; Pricing 1: 1=0,23000, 10=0,18500, 100=0,09830, 500=0,06468, 1000=0,04399 (USD); RoHS: Yes; Mount: Surface Mount; Case/Package: TO-236-3; Package Quantity: 1; Reverse Recovery Time: 5ns; Packaging: Tape and Reel; ComponentLink5URL: https://datasheet.ciiva.com/4717/bat54-9536-4717410.pdf?src-supplier=Mouser; ComponentLink5Description: https://datasheet.ciiva.com/4717/bat54-9536-4717410.pdf?src-supplier=Mouser; ComponentLink6URL: https://datasheet.ciiva.com/904/bat54-904630.pdf?src-supplier=Digi-Key; ComponentLink6Description: https://datasheet.ciiva.com/904/bat54-904630.pdf?src-supplier=Digi-Key; ComponentLink7URL: https://datasheet.ciiva.com/904/bat54-904631.pdf?src-supplier=Digi-Key; ComponentLink7Description: https://datasheet.ciiva.com/904/bat54-904631.pdf?src-supplier=Digi-Key; ComponentLink8URL: https://datasheet.ciiva.com/904/bat54-904632.pdf?src-supplier=Digi-Key; ComponentLink8Description: https://datasheet.ciiva.com/904/bat54-904632.pdf?src-supplier=Digi-Key
footprint BAT54C_SOT23-3 (SOT23, 3 pin)
pins: A1, A2, C

## BAT54SLT1G_shottky_diode
designator D?, comment BAT54SLT1G
Manufacturer: ON Semiconductor; Part Description: Diode Array 1 Pair Series Connection Schottky 30V 200mA (DC) Surface Mount TO-236-3, SC-59, SOT-23-3; Max Surge Current: 600mA; Forward Current: 200mA; Forward Voltage: 800mV; Peak Reverse Current: 2uA; Recovery Time: 5ns; Element Configuration: Dual; Max Repetitive Reverse Voltage (Vrrm): 30V; Peak Non-Repetitive Surge Current: 1A; Power Dissipation: 225mW; Capacitance: 10pF; Supplier 1: Digi-Key; Manufacturer Part Number 1: BAT54SLT1G; RoHS: Yes; Stock 1: 1449452; Pricing 1: 1 = 0,19000, 10 = 0,17200, 100 = 0,09350, 500 = 0,05756, 1000 = 0,03925 (USD); Case/Package: SOT-23-3; Number of Pins: 3; Contact Plating: Matte,Tin; Min Operating Temperature: -55°C; Max Operating Temperature: 150°C; Packaging: Tape and Reel; Package Quantity: 3000; Average Rectified Current: 200mA; Reverse Recovery Time: 5ns; Max Reverse Leakage Current: 2uA; Current Rating: 200mA; Voltage Rating (DC): 30V; Max Reverse Voltage (DC): 30V; Max Forward Surge Current (Ifsm): 600mA; Length: 2.9mm; Height: 0.94mm; Width: 1.3mm; Radiation Hardening: No; Lead Free: Lead Free; Halogen Free: Halogen Free; REACH SVHC: No SVHC; ComponentLink1URL: http://www.farnell.com/datasheets/1918741.pdf; ComponentLink1Description: http://www.farnell.com/datasheets/1918741.pdf; ComponentLink2URL: http://www.farnell.com/datasheets/2353871.pdf; ComponentLink2Description: http://www.farnell.com/datasheets/2353871.pdf; ComponentLink3URL: https://www.alliedelec.com/m/d/272158a697e3f24d20806a718aa29d59.pdf; ComponentLink3Description: https://www.alliedelec.com/m/d/272158a697e3f24d20806a718aa29d59.pdf; ComponentLink4URL: http://www.onsemi.com/pub/Collateral/BAT54SLT1-D.PDF; ComponentLink4Description: http://www.onsemi.com/pub/Collateral/BAT54SLT1-D.PDF; Supplier Part Number 1: BAT54SLT1GOSCT-ND
footprint BAT54SLT1G_SOT23-3 (SOT23, 3 pin)
pins: A, A/C, C

## BAV99WT1G_DUAL_DIODE
designator VD?, comment BAV99WT1G
Manufacturer: ON Semiconductor; Manufacturer Part Number 1: SBAV99WT1G; Part Description: Diode Array 1 Pair Series Connection Standard 100V 215mA (DC) Surface Mount SC-70, SOT-323; Max Surge Current: 500mA; Recovery Time: 6ns; Forward Current: 715mA; Peak Reverse Current: 2.5uA; Forward Voltage: 1.25V; Element Configuration: Dual; Max Repetitive Reverse Voltage (Vrrm): 70V; Peak Non-Repetitive Surge Current: 2A; Max Reverse Voltage (DC): 100V; Max Power Dissipation: 200mW; Supplier 1: Digi-Key; Stock 1: 1217; Pricing 1: 1=0.32, 10=0.259, 100=0.1375, 500=0.09044, 1000=0.0615 (USD); Case/Package: SOT-323-3; Number of Pins: 3; Min Operating Temperature: -65°C; Max Operating Temperature: 150°C; Package Quantity: 3000; Packaging: Tape and Reel; Average Rectified Current: 715mA; Reverse Recovery Time: 6ns; Max Reverse Leakage Current: 2.5uA; Max Forward Surge Current (Ifsm): 500mA; Length: 2.2mm; Height: 0.9mm; Width: 1.35mm; Radiation Hardening: No; REACH SVHC: No SVHC; Lead Free: Lead Free; Halogen Free: Halogen Free; Supplier Part Number 1: SBAV99WT1GOSCT-ND
footprint SC-70_BAV99WT1G (SC-70 (SOT323), 3 pin)
pins: 1, 2, 3

## BF1105R,215
designator VT?, comment RF MOSFET
Manufacturer Part Number 1: BF1105R,215; Manufacturer: NXP Semiconductors; Part Description: RF MOSFET Transistors Trans MOSFET N-CH 7V 0.03A 4pin(3+Tab); Voltage - Rated: 7V; Noise Figure: 1.7dB; Current Rating: 30mA; Gain: 20dB; Transistor Type: N-Channel Dual Gate; Frequency: 800MHz; Voltage - Test: 5V; Supplier 1: Digi-Key; RoHS: RoHS Compliant; Supplier Device Package: SOT-143R; Power - Output: -; Current - Test: -; Packaging: Digi-Reel®; Package / Case: SOT-143R; Category: Discrete Semiconductor Products; Supplier Part Number 1: 568-12530-6-ND
footprint BF1105R_SOT143R4 (RF MOSFET Transistors Trans MOSFET N-CH 7V 0.03A 4pin(3+Tab). SOT-143R-4 package)
pins: 1 S, 2 D, 3 G2, 4 G1

## BFCN-1860+
designator IC?
Manufacturer: Minicircuits; Part Description: 1580 to 2200 MHz 50R bandpass filter; Supplier 1: Minicircuits; Supplier Part Number 1: BFCN-1860+; Manufacturer Part Number 1: BFCN-1860+
footprint SAW_BFCN-SERIES (BFCN-1860+, 2435+, 2700+, 2850+, 4085+)
pins: 1 Input (in), 2 GND, 3 Output (out), 4 GND

## BFCN-2435+
designator IC?
Manufacturer: Minicircuits; Part Description: 2340 to 2530 MHz 50R bandpass filter; Supplier 1: Minicircuits; Supplier Part Number 1: BFCN-2435+; Manufacturer Part Number 1: BFCN-2435+
footprint SAW_BFCN-SERIES (BFCN-1860+, 2435+, 2700+, 2850+, 4085+)
pins: 1 Input (in), 2 GND, 3 Output (out), 4 GND

## BFCN-2700+
designator IC?
Manufacturer: Minicircuits; Part Description: 2600 to 2800 MHz 50R bandpass filter; Supplier 1: Minicircuits; Supplier Part Number 1: BFCN-2700+; Manufacturer Part Number 1: BFCN-2700+
footprint SAW_BFCN-SERIES (BFCN-1860+, 2435+, 2700+, 2850+, 4085+)
pins: 1 Input (in), 2 GND, 3 Output (out), 4 GND

## BFCN-2850+
designator IC?
Manufacturer: Minicircuits; Part Description: 2750 to 2950 MHz 50R bandpass filter; Supplier 1: Minicircuits; Supplier Part Number 1: BFCN-2850+; Manufacturer Part Number 1: BFCN-2850+
footprint SAW_BFCN-SERIES (BFCN-1860+, 2435+, 2700+, 2850+, 4085+)
pins: 1 Input (in), 2 GND, 3 Output (out), 4 GND

## BFCN-4085+
designator IC?
Manufacturer: Minicircuits; Manufacturer Part Number 1: BFCV-4085+; Part Description: 4.085GHz Center Band Pass Ceramic Filter 1.91 GHz 50Ohm 4-SMD, No Lead; Supplier 1: Minicircuits; Supplier Part Number 1: BFCV-4085+
footprint SAW_BFCN-SERIES (BFCN-1860+, 2435+, 2700+, 2850+, 4085+)
pins: 1 Input (in), 2 GND, 3 Output (out), 4 GND

## BFCV-3350+
designator IC?
LTCC Bandpass Filter: 50Ω, 2570 to 4130 MHz; Manufacturer: Mini-Circuits; Part Description: LTCC Bandpass Filter: 50Ω, 2570 to 4130 MHz; Manufacturer Part Number 1: BFCV-3350+; Supplier 1: Mini-Circuits; Supplier Part Number 1: BFCV-3350+
footprint BFCV-3350+
pins: 1 IN (in), 2 GND, 3 OUT (out), 4 GND

## BFT92,215_PNP
designator VT, comment BFT92,215
Manufacturer: NXP Semiconductors; Part Description: RF TRANS PNP 15V 5GHZ TO236AB; Manufacturer Part Number: BFT92215; Polarity: PNP; Max Power Dissipation: 300mW; hFE Min: 50; Number of Elements: 1; Emitter Base Voltage (VEBO): 2V; Max Collector Current: 25mA; Frequency: 5GHz; Collector Emitter Voltage (VCEO): 15V; Collector Base Voltage (VCBO): 20V; Gain: 18dB; Element Configuration: Single; Continuous Collector Current: -25mA; Supplier 1: Digi-Key; Stock 1: 0; RoHS: Yes; Mount: Surface Mount; Case/Package: TO-236AB; Number of Pins: 3; Weight: 0.00709oz; Contact Plating: Tin; Min Operating Temperature: -65°C; Max Operating Temperature: 175°C; Packaging: Tape and Reel; Package Quantity: 1; Output Power: 300mW; Transition Frequency: 5GHz; Collector Emitter Breakdown Voltage: 15V; Max Breakdown Voltage: 15V; Power Dissipation: 300mW; Max Frequency: 5GHz; Gain Bandwidth Product: 5GHz; Series: -; Length: 3mm; Width: 1.4mm; Height: 1mm; Radiation Hardening: No; Lead Free: Lead Free; REACH SVHC: No SVHC; ComponentLink1URL: https://datasheet.ciiva.com/29696/1323776-29696333.pdf?src-supplier=Jameco; ComponentLink1Description: https://datasheet.ciiva.com/29696/1323776-29696333.pdf?src-supplier=Jameco; ComponentLink2URL: https://datasheet.ciiva.com/965/bft92-cnv-965053.pdf?src-supplier=Digi-Key; ComponentLink2Description: https://datasheet.ciiva.com/965/bft92-cnv-965053.pdf?src-supplier=Digi-Key; ComponentLink3URL: https://datasheet.ciiva.com/6362/bft92-cnv-6362733.pdf?src-supplier=Digi-Key; ComponentLink3Description: https://datasheet.ciiva.com/6362/bft92-cnv-6362733.pdf?src-supplier=Digi-Key; ComponentLink4URL: https://datasheet.ciiva.com/965/bft92-cnv-965054.pdf?src-supplier=Digi-Key; ComponentLink4Description: https://datasheet.ciiva.com/965/bft92-cnv-965054.pdf?src-supplier=Digi-Key; ComponentLink5URL: https://datasheet.ciiva.com/16221/bft92-cnv-16221865.pdf?src-supplier=Future+Electronics; ComponentLink5Description: https://datasheet.ciiva.com/16221/bft92-cnv-16221865.pdf?src-supplier=Future+Electronics; ComponentLink6URL: https://datasheet.ciiva.com/11198/bft92-cnv-11198214.pdf?src-supplier=Avnet; ComponentLink6Description: https://datasheet.ciiva.com/11198/bft92-cnv-11198214.pdf?src-supplier=Avnet; ComponentLink7URL: https://datasheet.ciiva.com/11204/bft92-cnv-11204747.pdf?src-supplier=Avnet; ComponentLink7Description: https://datasheet.ciiva.com/11204/bft92-cnv-11204747.pdf?src-supplier=Avnet; ComponentLink8URL: https://datasheet.ciiva.com/11204/bft92-cnv-11204828.pdf?src-supplier=Avnet; ComponentLink8Description: https://datasheet.ciiva.com/11204/bft92-cnv-11204828.pdf?src-supplier=Avnet; Supplier Part Number 1: 568-1655-1-ND
footprint BFT92,215_PNP_STO23-3
pins: 1 S, 2 E, 3 C

## BG13D
designator BG13D, comment IC?
Part Description: 5-6000 MHz cascadable InGaP HBT gain block; Manufacturer Part Number 1: BG13D; Supplier Part Number: BG13D; Supplier 1: Berex
pins: 1 IN (in), 2 GND, 3 OUT (out)

## BGS12PN10E6327XTSA1_SPDT_RF_SWITCH
designator IC?, comment BGS12PN10E6327XTSA1
Part Description: RF Switch IC SPDT 6 GHz 50Ohm PG-TSNP-10-1; Manufacturer: Infineon; Bandwidth: 5.5GHz; Frequency: 6GHz; Max Junction Temperature (Tj): 125°C; Number of Circuits: 1; Operating Supply Voltage: 2.85V; Throw Configuration: SPDT; Supplier 1: DigiKey; Supplier Part Number 1: BGS12PN10E6327XTSA1CT-ND; Manufacturer Part Number 1: BGS12PN10E6327XTSA1; Stock 1: 212; Pricing 1: 1=0,59, 10=0,417, 25=0,374, 100=0,326, 250=0,3032, 500=0,2894, 1000=0,27806, 2500=0,26609, 7500=0,25526, 15000=0,24996, 22500=0,2473, 37500=0,24436 (USD); RoHS: Compliant; Ambient Temperature Range High: 85°C; China RoHS: Compliant; Height: 400µm; Height - Seated (Max): 400µm; Length: 1.5mm; Lifecycle Status: Production; Max Frequency: 6GHz; Max Operating Temperature: 85°C; Min Operating Temperature: -30°C; Number of Terminals: 10; Package Quantity: 7500; Packaging: Tape & Reel; REACH SVHC: Yes; Schedule B: 8542390000, 8542390000|8542390000, 8542390000|8542390000|8542390000, 8542390000|8542390000|8542390000|8542390000; Terminal Pitch: 400µm; Width: 1.1mm; ComponentLink1URL: https://datasheet.octopart.com:443/BGS12PN10E6327XTSA1-Infineon-datasheet-76796287.pdf?src-supplier=IHS; ComponentLink1Description: https://datasheet.octopart.com:443/BGS12PN10E6327XTSA1-Infineon-datasheet-76796287.pdf?src-supplier=IHS; ComponentLink2URL: http://sigma.octopart.com:80/conflict_mineral_statement/Infineon-company-51.pdf?src-supplier=Compliance+Statements; ComponentLink2Description: http://sigma.octopart.com:80/conflict_mineral_statement/Infineon-company-51.pdf?src-supplier=Compliance+Statements
footprint BGS12PN10E6327XTSA1_SPDT_RF_SWITCH
pins: 1 RF1 (io), 2 GND (power) "Ground", 3 GND (power) "Ground", 4 VDD (power) "Supply Voltage", 5 NC "Not connected", 6 CTRL (in) "Control Pin 2", 7 GND (power) "Ground", 8 GND (power) "Ground", 9 RF2 (io), 10 ANT (io) "Common RF / Antenna"

## BGS12WN6E6327XTSA1_RF_SWITCH
designator IC?, comment BGS12WN6E6327XTSA1
Manufacturer: Infineon; Part Description: RF Switch IC WLAN SPDT 50Ohm PG-TSNP-6-10; Bandwidth: 8.95GHz; Impedance: 50Ω; Insertion Loss (dB): 0.75dB; Max Frequency: 6GHz; Max Junction Temperature (Tj): 125°C; Max Supply Current: 120µA; Number of Circuits: 1; Turn-On Delay Time: 220ns; Supplier 1: DigiKey; Supplier Part Number 1: 448-BGS12WN6E6327XTSA1CT-ND; Manufacturer Part Number 1: BGS12WN6E6327XTSA1; Stock 1: 60589; Pricing 1: 1=0,33, 10=0,281, 25=0,2644, 100=0,2416, 250=0,2278, 500=0,21806, 1000=0,20884, 5000=0,18938 (USD); RoHS: Compliant; Ambient Temperature Range High: 85°C; China RoHS: Compliant; Country of Origin: Germany, Mainland China, Malaysia; Height: 400µm; Introduction Date: 2020-03-06; Lifecycle Status: Production; Max Operating Temperature: 85°C; Min Operating Temperature: -40°C; Mount: Surface Mount; Number of Terminals: 6; REACH SVHC: Yes; Schedule B: 8542390000, 8542390000|8542390000, 8542390000|8542390000|8542390000, 8542390000|8542390000|8542390000|8542390000; ComponentLink1URL: https://datasheet.octopart.com:443/BGS12WN6E6327XTSA1-Infineon-datasheet-180052878.pdf?src-supplier=IHS; ComponentLink1Description: https://datasheet.octopart.com:443/BGS12WN6E6327XTSA1-Infineon-datasheet-180052878.pdf?src-supplier=IHS; ComponentLink2URL: http://sigma.octopart.com:80/conflict_mineral_statement/Infineon-company-51.pdf?src-supplier=Compliance+Statements; ComponentLink2Description: http://sigma.octopart.com:80/conflict_mineral_statement/Infineon-company-51.pdf?src-supplier=Compliance+Statements
footprint BGS12WN6E6327XTSA1_TSNP6-10
pins: 1 RF2, 2 GND (power), 3 RF1, 4 VDD (power), 5 RFIN, 6 CTRL

## BL2012-05V2400ABRK
designator T?
Part Description: RF balun; 900MHz-3.8GHz; 50R, 1:1, 2012 package; Manufacturer 1: Advanced Ceramic X (ACX); Supplier 1: Advanced Ceramic X (ACX); Manufacturer Part Number 1: BL2012-05V2400ABRK; Supplier Part Number 1: BL2012-05V2400ABRK
footprint BL2012-05V2400ABRK
pins: 1 UNBAL (io), 2 GND, 3 BAL1 (io), 4 BAL2 (io), 5 GND, 6 NC

## BL2012-07M1975RK
designator T?
Part Description: RF balun; 950MHz-3.5GHz; 50R (original impedance 75R), 1:1, 2012 package; Manufacturer 1: Advanced Ceramic X (ACX); Supplier 1: Advanced Ceramic X (ACX); Manufacturer Part Number 1: BL2012-07M1975RK; Supplier Part Number 1: BL2012-07M1975RK
footprint BL2012-07M1975RK
pins: 1 GND/UNBAL (io), 2 UNBAL/GND (io), 3 GND, 4 BAL (io), 5 NC, 6 BAL (io)

## BLB0x
designator IC?, comment BLB01/BLB02
Part Description: 1.5-2.7 GHz High Linearity LNA; Manufacturer Part Number 1: BLB02; Supplier Part Number: BLB02; Supplier 1: Berex
footprint BLB0x_LNA (BLB01 and BLB02 footprint)
pins: 1 Ven/Vbias (in), 2 RFin (in), 3 NC, 4 NC, 5 NC, 6 NC, 7 RFout/Vdd (out), 8 NC, 9 PAD

## BLB02
designator BLB02, comment IC?
Part Description: 1.5-2.7 GHz High Linearity LNA; Manufacturer Part Number 1: BLB02; Supplier Part Number: BLB02; Supplier 1: Berex
pins: 1 Ven/Vbias (in), 2 RFin (in), 3 NC, 4 NC, 5 NC, 6 NC, 7 RFout/Vdd (out), 8 NC, 9 PAD

## BMI-S-101_RF_SHIELD
designator MECH?, comment BMI-S-101
Part Description: RF Shield Shield, 1-Piece 0.512" (13.00mm) X 0.538" (13.66mm) Vent Holes in Pattern Surface Mount; Manufacturer: Laird; ComponentLink1URL: http://assets.lairdtech.com/home/brandworld/files/EMI-CAT-Essentials%201213.pdf?src-supplier=Digikey; ComponentLink1Description: http://assets.lairdtech.com/home/brandworld/files/EMI-CAT-Essentials%201213.pdf?src-supplier=Digikey; ComponentLink2URL: http://assets.lairdtech.com/home/brandworld/files/Board%20Level%20Shields%20Catalog%20Download.pdf?src-supplier=Digikey; ComponentLink2Description: http://assets.lairdtech.com/home/brandworld/files/Board%20Level%20Shields%20Catalog%20Download.pdf?src-supplier=Digikey; ComponentLink3URL: https://datasheet.octopart.com/BMI-S-101-Laird-datasheet-150754577.pdf?src-supplier=Sager+Electronics; ComponentLink3Description: https://datasheet.octopart.com/BMI-S-101-Laird-datasheet-150754577.pdf?src-supplier=Sager+Electronics; Supplier 1: Digikey; Supplier Part Number 1: 903-1006-1-ND; Manufacturer Part Number 1: BMI-S-101; Stock 1: 1005; Pricing 1: 1=2,45, 10=1,535, 25=1,2968, 100=1,0281, 250=0,89596, 500=0,8147 (USD); RoHS: Yes
footprint BMI-S-101_RF_SHIELD (Full footprint)
pins: 0 GND